# EAGLE library part OLIMEX_IC_A13 (library A13-OLinuXino_WIFI_Rev_G)
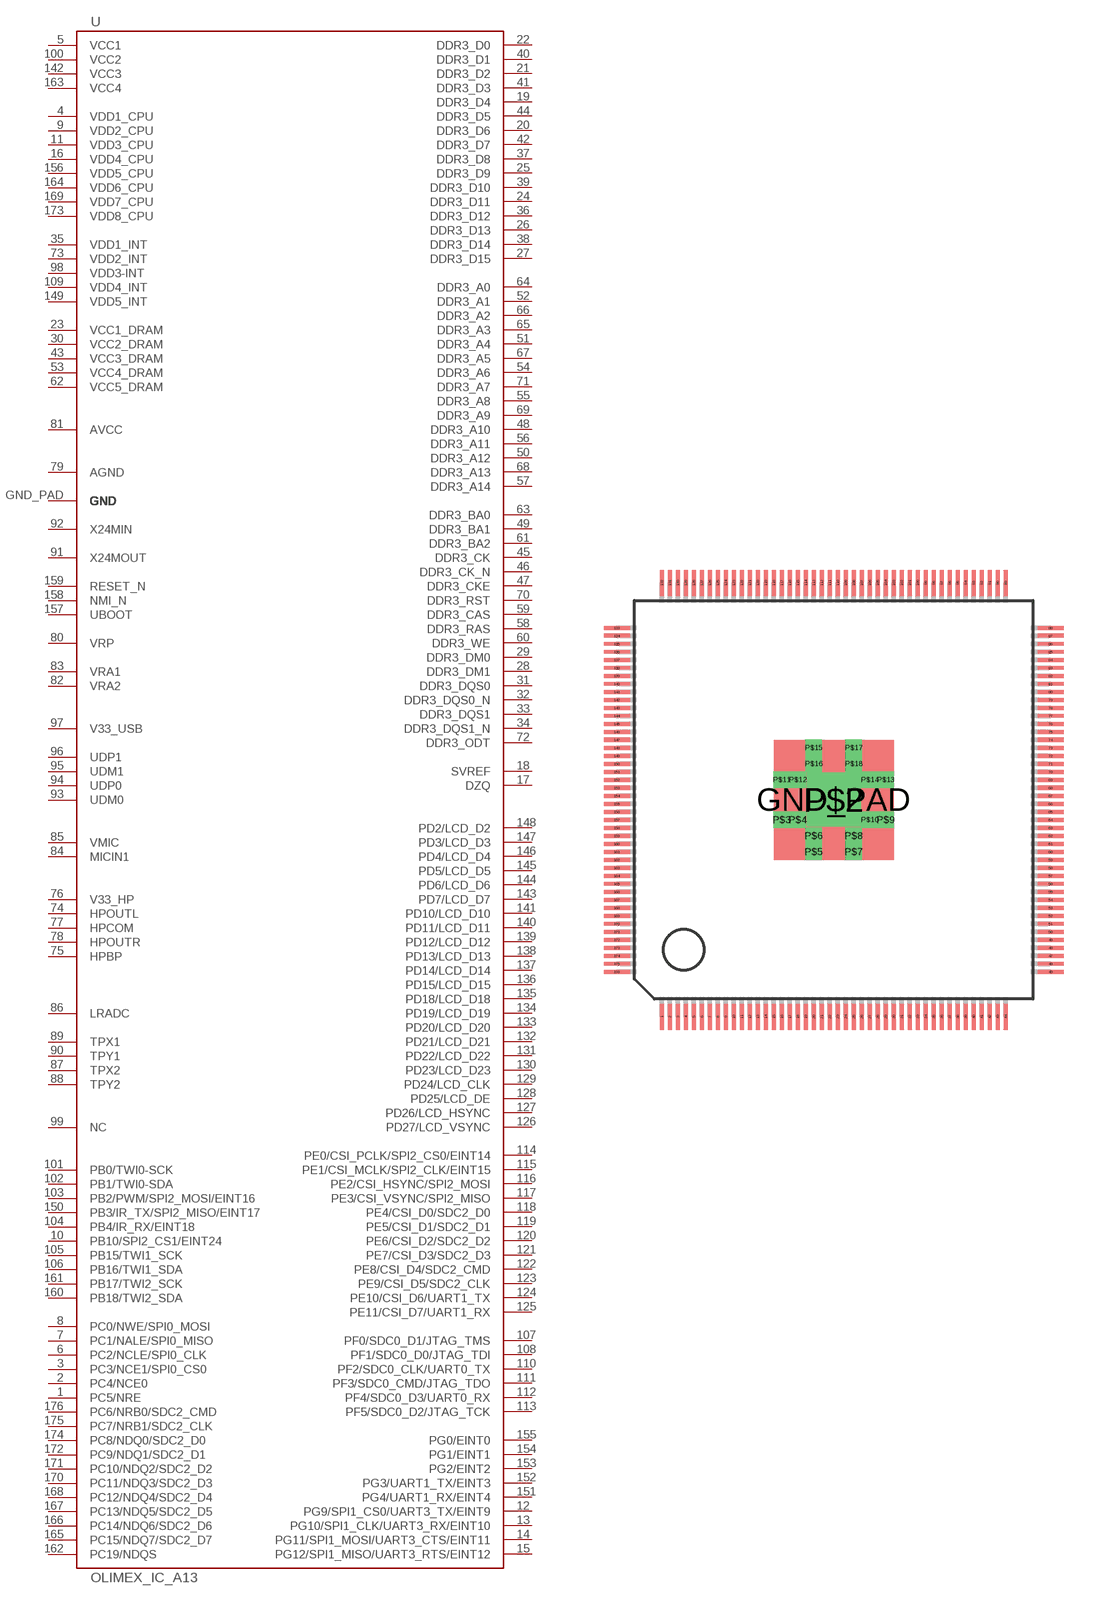
[diagram p6: symbol with the pads of OLIMEX_IC_TQFP176; footprint OLIMEX_IC_TQFP176]

Designator prefix U

## OLIMEX_IC_A13  [OLIMEX_IC_TQFP176]
1  PC5/NRE
2  PC4/NCE0
3  PC3/NCE1/SPI0_CS0
4  VDD1_CPU  pwr
5  VCC1  pwr
6  PC2/NCLE/SPI0_CLK
7  PC1/NALE/SPI0_MISO
8  PC0/NWE/SPI0_MOSI
9  VDD2_CPU  pwr
10  PB10/SPI2_CS1/EINT24
11  VDD3_CPU  pwr
12  PG9/SPI1_CS0/UART3_TX/EINT9
13  PG10/SPI1_CLK/UART3_RX/EINT10
14  PG11/SPI1_MOSI/UART3_CTS/EINT11
15  PG12/SPI1_MISO/UART3_RTS/EINT12
16  VDD4_CPU  pwr
17  DZQ
18  SVREF
19  DDR3_D4
20  DDR3_D6
21  DDR3_D2
22  DDR3_D0
23  VCC1_DRAM  pwr
24  DDR3_D11
25  DDR3_D9
26  DDR3_D13
27  DDR3_D15
28  DDR3_DM1  out
29  DDR3_DM0  out
30  VCC2_DRAM  pwr
31  DDR3_DQS0
32  DDR3_DQS0_N
33  DDR3_DQS1
34  DDR3_DQS1_N
35  VDD1_INT  pwr
36  DDR3_D12
37  DDR3_D8
38  DDR3_D14
39  DDR3_D10
40  DDR3_D1
41  DDR3_D3
42  DDR3_D7
43  VCC3_DRAM  pwr
44  DDR3_D5
45  DDR3_CK  out
46  DDR3_CK_N  out
47  DDR3_CKE  out
48  DDR3_A10  out
49  DDR3_BA1  out
50  DDR3_A12  out
51  DDR3_A4  out
52  DDR3_A1  out
53  VCC4_DRAM  pwr
54  DDR3_A6  out
55  DDR3_A8  out
56  DDR3_A11  out
57  DDR3_A14  out
58  DDR3_RAS  out
59  DDR3_CAS  out
60  DDR3_WE  out
61  DDR3_BA2  out
62  VCC5_DRAM  pwr
63  DDR3_BA0  out
64  DDR3_A0  out
65  DDR3_A3  out
66  DDR3_A2  out
67  DDR3_A5  out
68  DDR3_A13  out
69  DDR3_A9  out
70  DDR3_RST  out
71  DDR3_A7  out
72  DDR3_ODT  out
73  VDD2_INT  pwr
74  HPOUTL  out
75  HPBP  out
76  V33_HP  pwr
77  HPCOM  out
78  HPOUTR  out
79  AGND  pwr
80  VRP
81  AVCC  pwr
82  VRA2
83  VRA1
84  MICIN1  in
85  VMIC  pwr
86  LRADC  in
87  TPX2
88  TPY2
89  TPX1
90  TPY1
91  X24MOUT  out
92  X24MIN  in
93  UDM0
94  UDP0
95  UDM1
96  UDP1
97  V33_USB
98  VDD3-INT  pwr
99  NC  nc
100  VCC2  pwr
101  PB0/TWI0-SCK
102  PB1/TWI0-SDA
103  PB2/PWM/SPI2_MOSI/EINT16
104  PB4/IR_RX/EINT18
105  PB15/TWI1_SCK
106  PB16/TWI1_SDA
107  PF0/SDC0_D1/JTAG_TMS
108  PF1/SDC0_D0/JTAG_TDI
109  VDD4_INT  pwr
110  PF2/SDC0_CLK/UART0_TX
111  PF3/SDC0_CMD/JTAG_TDO
112  PF4/SDC0_D3/UART0_RX
113  PF5/SDC0_D2/JTAG_TCK
114  PE0/CSI_PCLK/SPI2_CS0/EINT14
115  PE1/CSI_MCLK/SPI2_CLK/EINT15
116  PE2/CSI_HSYNC/SPI2_MOSI
117  PE3/CSI_VSYNC/SPI2_MISO
118  PE4/CSI_D0/SDC2_D0
119  PE5/CSI_D1/SDC2_D1
120  PE6/CSI_D2/SDC2_D2
121  PE7/CSI_D3/SDC2_D3
122  PE8/CSI_D4/SDC2_CMD
123  PE9/CSI_D5/SDC2_CLK
124  PE10/CSI_D6/UART1_TX
125  PE11/CSI_D7/UART1_RX
126  PD27/LCD_VSYNC
127  PD26/LCD_HSYNC
128  PD25/LCD_DE
129  PD24/LCD_CLK
130  PD23/LCD_D23
131  PD22/LCD_D22
132  PD21/LCD_D21
133  PD20/LCD_D20
134  PD19/LCD_D19
135  PD18/LCD_D18
136  PD15/LCD_D15
137  PD14/LCD_D14
138  PD13/LCD_D13
139  PD12/LCD_D12
140  PD11/LCD_D11
141  PD10/LCD_D10
142  VCC3  pwr
143  PD7/LCD_D7
144  PD6/LCD_D6
145  PD5/LCD_D5
146  PD4/LCD_D4
147  PD3/LCD_D3
148  PD2/LCD_D2
149  VDD5_INT  pwr
150  PB3/IR_TX/SPI2_MISO/EINT17
151  PG4/UART1_RX/EINT4
152  PG3/UART1_TX/EINT3
153  PG2/EINT2
154  PG1/EINT1
155  PG0/EINT0
156  VDD5_CPU  pwr
157  UBOOT  in
158  NMI_N  in
159  RESET_N  in
160  PB18/TWI2_SDA
161  PB17/TWI2_SCK
162  PC19/NDQS
163  VCC4  pwr
164  VDD6_CPU  pwr
165  PC15/NDQ7/SDC2_D7
166  PC14/NDQ6/SDC2_D6
167  PC13/NDQ5/SDC2_D5
168  PC12/NDQ4/SDC2_D4
169  VDD7_CPU  pwr
170  PC11/NDQ3/SDC2_D3
171  PC10/NDQ2/SDC2_D2
172  PC9/NDQ1/SDC2_D1
173  VDD8_CPU  pwr
174  PC8/NDQ0/SDC2_D0
175  PC7/NRB1/SDC2_CLK
176  PC6/NRB0/SDC2_CMD
GND_PAD  GND  in
P$2  GND  in
P$3  GND  in
P$4  GND  in
P$5  GND  in
P$6  GND  in
P$7  GND  in
P$8  GND  in
P$9  GND  in
P$10  GND  in
P$11  GND  in
P$12  GND  in
P$13  GND  in
P$14  GND  in
P$15  GND  in
P$16  GND  in
P$17  GND  in
P$18  GND  in

## Footprint OLIMEX_IC_TQFP176 (pad centres in mm)
smd 0.2 x 1.3: 1 -8.6,-10.85; 2 -8.2,-10.85; 3 -7.8,-10.85; 4 -7.4,-10.85; 5 -7,-10.85; 6 -6.6,-10.85; 7 -6.2,-10.85; 8 -5.8,-10.85; 9 -5.4,-10.85; 10 -5,-10.85; 11 -4.6,-10.85; 12 -4.2,-10.85; 13 -3.8,-10.85; 14 -3.4,-10.85; 15 -3,-10.85; 16 -2.6,-10.85; 17 -2.2,-10.85; 18 -1.8,-10.85; 19 -1.4,-10.85; 20 -1,-10.85; 21 -0.6,-10.85; 22 -0.2,-10.85; 23 0.2,-10.85; 24 0.6,-10.85; 25 1,-10.85; 26 1.4,-10.85; 27 1.8,-10.85; 28 2.2,-10.85; 29 2.6,-10.85; 30 3,-10.85; 31 3.4,-10.85; 32 3.8,-10.85; 33 4.2,-10.85; 34 4.6,-10.85; 35 5,-10.85; 36 5.4,-10.85; 37 5.8,-10.85; 38 6.2,-10.85; 39 6.6,-10.85; 40 7,-10.85; 41 7.4,-10.85; 42 7.8,-10.85; 43 8.2,-10.85; 44 8.6,-10.85; 89 8.6,10.85; 90 8.2,10.85; 91 7.8,10.85; 92 7.4,10.85; 93 7,10.85; 94 6.6,10.85; 95 6.2,10.85; 96 5.8,10.85; 97 5.4,10.85; 98 5,10.85; 99 4.6,10.85; 100 4.2,10.85; 101 3.8,10.85; 102 3.4,10.85; 103 3,10.85; 104 2.6,10.85; 105 2.2,10.85; 106 1.8,10.85; 107 1.4,10.85; 108 1,10.85; 109 0.6,10.85; 110 0.2,10.85; 111 -0.2,10.85; 112 -0.6,10.85; 113 -1,10.85; 114 -1.4,10.85; 115 -1.8,10.85; 116 -2.2,10.85; 117 -2.6,10.85; 118 -3,10.85; 119 -3.4,10.85; 120 -3.8,10.85; 121 -4.2,10.85; 122 -4.6,10.85; 123 -5,10.85; 124 -5.4,10.85; 125 -5.8,10.85; 126 -6.2,10.85; 127 -6.6,10.85; 128 -7,10.85; 129 -7.4,10.85; 130 -7.8,10.85; 131 -8.2,10.85; 132 -8.6,10.85
smd 1.3 x 0.2: 45 10.85,-8.6; 46 10.85,-8.2; 47 10.85,-7.8; 48 10.85,-7.4; 49 10.85,-7; 50 10.85,-6.6; 51 10.85,-6.2; 52 10.85,-5.8; 53 10.85,-5.4; 54 10.85,-5; 55 10.85,-4.6; 56 10.85,-4.2; 57 10.85,-3.8; 58 10.85,-3.4; 59 10.85,-3; 60 10.85,-2.6; 61 10.85,-2.2; 62 10.85,-1.8; 63 10.85,-1.4; 64 10.85,-1; 65 10.85,-0.6; 66 10.85,-0.2; 67 10.85,0.2; 68 10.85,0.6; 69 10.85,1; 70 10.85,1.4; 71 10.85,1.8; 72 10.85,2.2; 73 10.85,2.6; 74 10.85,3; 75 10.85,3.4; 76 10.85,3.8; 77 10.85,4.2; 78 10.85,4.6; 79 10.85,5; 80 10.85,5.4; 81 10.85,5.8; 82 10.85,6.2; 83 10.85,6.6; 84 10.85,7; 85 10.85,7.4; 86 10.85,7.8; 87 10.85,8.2; 88 10.85,8.6; 133 -10.85,8.6; 134 -10.85,8.2; 135 -10.85,7.8; 136 -10.85,7.4; 137 -10.85,7; 138 -10.85,6.6; 139 -10.85,6.2; 140 -10.85,5.8; 141 -10.85,5.4; 142 -10.85,5; 143 -10.85,4.6; 144 -10.85,4.2; 145 -10.85,3.8; 146 -10.85,3.4; 147 -10.85,3; 148 -10.85,2.6; 149 -10.85,2.2; 150 -10.85,1.8; 151 -10.85,1.4; 152 -10.85,1; 153 -10.85,0.6; 154 -10.85,0.2; 155 -10.85,-0.2; 156 -10.85,-0.6; 157 -10.85,-1; 158 -10.85,-1.4; 159 -10.85,-1.8; 160 -10.85,-2.2; 161 -10.85,-2.6; 162 -10.85,-3; 163 -10.85,-3.4; 164 -10.85,-3.8; 165 -10.85,-4.2; 166 -10.85,-4.6; 167 -10.85,-5; 168 -10.85,-5.4; 169 -10.85,-5.8; 170 -10.85,-6.2; 171 -10.85,-6.6; 172 -10.85,-7; 173 -10.85,-7.4; 174 -10.85,-7.8; 175 -10.85,-8.2; 176 -10.85,-8.6
smd 6 x 6: GND_PAD 0,0
drill 1.8 pad 2.184 square: P$2 0,0
drill 0.3 pad 0.406 square: P$3 -2.6,-1; P$4 -1.8,-1; P$5 -1,-2.6; P$6 -1,-1.8; P$7 1,-2.6; P$8 1,-1.8; P$9 2.6,-1; P$10 1.8,-1; P$11 -2.6,1; P$12 -1.8,1; P$13 2.6,1; P$14 1.8,1; P$15 -1,2.6; P$16 -1,1.8; P$17 1,2.6; P$18 1,1.8